# Altium footprint library modified_nrf.PcbLib: 1 footprints
Each footprint in its own frame and in the unit in brackets; x right, y up, seen from the top. Pads: shape width x height; smd on the part's side, far side on the other; paste and mask are expansions set on the pad; w line width, h text height; cw(c..) or ccw(c..) is an arc to the next point about the centre after c.
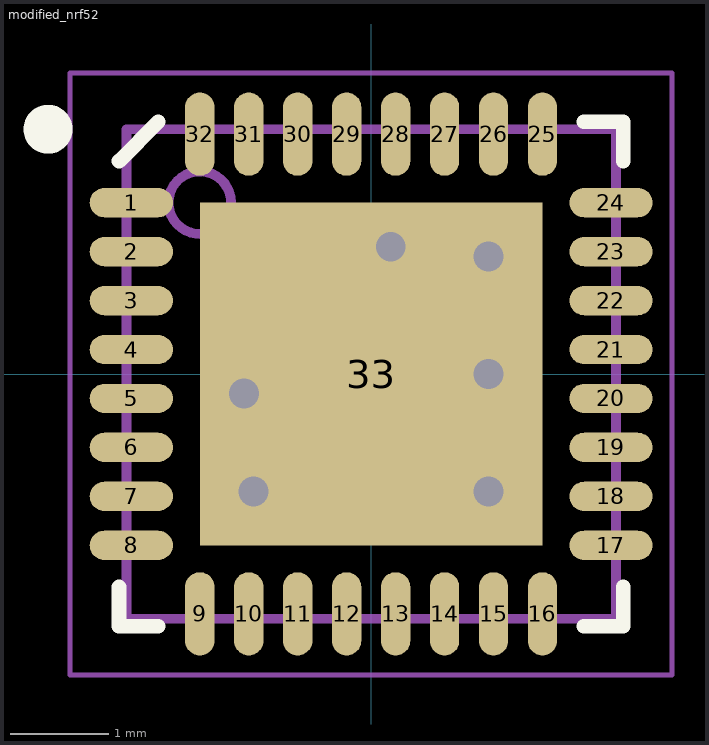
[diagram p0: the footprint, top view; thin cyan lines are the x and y axes]

## modified_nrf52 [mm]
pads (33):
  oval 0.85x0.3 smd mask+0.076: 1(-2.45,1.75) 2(-2.45,1.25) 3(-2.45,0.75) 4(-2.45,0.25) 5(-2.45,-0.25) 6(-2.45,-0.75) 7(-2.45,-1.25) 8(-2.45,-1.75) 17(2.45,-1.75) 18(2.45,-1.25) 19(2.45,-0.75) 20(2.45,-0.25) 21(2.45,0.25) 22(2.45,0.75) 23(2.45,1.25) 24(2.45,1.75)
  oval 0.3x0.85 smd mask+0.076: 9(-1.75,-2.45) 10(-1.25,-2.45) 11(-0.75,-2.45) 12(-0.25,-2.45) 13(0.25,-2.45) 14(0.75,-2.45) 15(1.25,-2.45) 16(1.75,-2.45) 25(1.75,2.45) 26(1.25,2.45) 27(0.75,2.45) 28(0.25,2.45) 29(-0.25,2.45) 30(-0.75,2.45) 31(-1.25,2.45) 32(-1.75,2.45)
  rect 3.5x3.5 smd: 33(0,0)
via 1.2,1.2 diameter 0.61 hole 0.305
via 1.2,0 diameter 0.61 hole 0.305
via 1.2,-1.2 diameter 0.61 hole 0.305
via -1.2,-1.2 diameter 0.61 hole 0.305
via -1.3,-0.2 diameter 0.61 hole 0.305
via 0.2,1.3 diameter 0.61 hole 0.305
Top Overlay:
  circle w0.25: c-3.3,2.5 r0.125
  lines w0.15: -2.575,-2.175 -2.575,-2.575 -2.175,-2.575 ; -2.575,2.175 -2.175,2.575 ; 2.175,-2.575 2.575,-2.575 2.575,-2.175 ; 2.175,2.575 2.575,2.575 2.575,2.175
Mechanical 7:
  circle w0.1: c-1.75,1.75 r0.32
  lines w0.1: -2.5,-1.845 -2.571,-1.845 cw(c-2.571,-1.75) -2.571,-1.655 -2.5,-1.655 ; -2.5,-1.345 -2.571,-1.345 cw(c-2.571,-1.25) -2.571,-1.155 -2.5,-1.155 ; -2.5,-0.845 -2.571,-0.845 cw(c-2.571,-0.75) -2.571,-0.655 -2.5,-0.655 ; -2.5,-0.345 -2.571,-0.345 cw(c-2.571,-0.25) -2.571,-0.155 -2.5,-0.155 ; -2.5,0.155 -2.571,0.155 cw(c-2.571,0.25) -2.571,0.345 -2.5,0.345 ; -2.5,0.655 -2.571,0.655 cw(c-2.571,0.75) -2.571,0.845 -2.5,0.845 ; -2.5,1.155 -2.571,1.155 cw(c-2.571,1.25) -2.571,1.345 -2.5,1.345 ; -2.5,1.655 -2.571,1.655 cw(c-2.571,1.75) -2.571,1.845 -2.5,1.845 ; -1.845,-2.5 -1.845,-2.571 ccw(c-1.75,-2.571) -1.655,-2.571 -1.655,-2.5 ; -1.845,2.5 -1.845,2.571 cw(c-1.75,2.571) -1.655,2.571 -1.655,2.5 ; -1.345,-2.5 -1.345,-2.571 ccw(c-1.25,-2.571) -1.155,-2.571 -1.155,-2.5 ; -1.345,2.5 -1.345,2.571 cw(c-1.25,2.571) -1.155,2.571 -1.155,2.5 ; -0.845,-2.5 -0.845,-2.571 ccw(c-0.75,-2.571) -0.655,-2.571 -0.655,-2.5 ; -0.845,2.5 -0.845,2.571 cw(c-0.75,2.571) -0.655,2.571 -0.655,2.5 ; -0.345,-2.5 -0.345,-2.571 ccw(c-0.25,-2.571) -0.155,-2.571 -0.155,-2.5 ; -0.345,2.5 -0.345,2.571 cw(c-0.25,2.571) -0.155,2.571 -0.155,2.5 ; 0.155,-2.5 0.155,-2.571 ccw(c0.25,-2.571) 0.345,-2.571 0.345,-2.5 ; 0.155,2.5 0.155,2.571 cw(c0.25,2.571) 0.345,2.571 0.345,2.5 ; 0.655,-2.5 0.655,-2.571 ccw(c0.75,-2.571) 0.845,-2.571 0.845,-2.5 ; 0.655,2.5 0.655,2.571 cw(c0.75,2.571) 0.845,2.571 0.845,2.5 ; 1.155,-2.5 1.155,-2.571 ccw(c1.25,-2.571) 1.345,-2.571 1.345,-2.5 ; 1.155,2.5 1.155,2.571 cw(c1.25,2.571) 1.345,2.571 1.345,2.5 ; 1.655,-2.5 1.655,-2.571 ccw(c1.75,-2.571) 1.845,-2.571 1.845,-2.5 ; 1.655,2.5 1.655,2.571 cw(c1.75,2.571) 1.845,2.571 1.845,2.5 ; 2.5,-1.845 2.571,-1.845 ccw(c2.571,-1.75) 2.571,-1.655 2.5,-1.655 ; 2.5,-1.345 2.571,-1.345 ccw(c2.571,-1.25) 2.571,-1.155 2.5,-1.155 ; 2.5,-0.845 2.571,-0.845 ccw(c2.571,-0.75) 2.571,-0.655 2.5,-0.655 ; 2.5,-0.345 2.571,-0.345 ccw(c2.571,-0.25) 2.571,-0.155 2.5,-0.155 ; 2.5,0.155 2.571,0.155 ccw(c2.571,0.25) 2.571,0.345 2.5,0.345 ; 2.5,0.655 2.571,0.655 ccw(c2.571,0.75) 2.571,0.845 2.5,0.845 ; 2.5,1.155 2.571,1.155 ccw(c2.571,1.25) 2.571,1.345 2.5,1.345 ; 2.5,1.655 2.571,1.655 ccw(c2.571,1.75) 2.571,1.845 2.5,1.845 ; -2.5,-2.5 2.5,-2.5 2.5,2.5 -2.5,2.5 -2.5,-2.5
  text ".Designator" at -0.879,-0.131 h0.38
Mechanical 15:
  lines w0.05: -3.075,-3.075 -3.075,3.075 3.075,3.075 3.075,-3.075 -3.075,-3.075
  lines w0.1: -0.5,0 0.5,0 ; 0,-0.5 0,0.5
3D body "QFN50P500X500X90_HS-33N.step": height 0.9, standoff 0, extent -2.501,-2.501 2.501,2.501